# Altium integrated library PQQ10W-Q24-S5-S.IntLib: 1 symbol
Pins are listed as number, name and electrical type; pins without a type are passive.

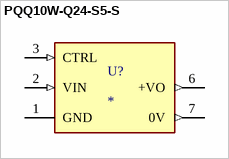
[diagram p0: symbol PQQ10W-Q24-S5-S]

## PQQ10W-Q24-S5-S
designator U?
10 W, 4:1 Input Range, Single Regulated Output, SIP8, 1500 Vdc Isolation, Dc-Dc Converter; MP: PQQ10W-Q24-S5-S; MF: CUI Inc.; SnapEDA_Link: https://www.snapeda.com/parts/PQQ10W-Q24-S5-S/CUI/view-part/?ref=snap; Availability: In Stock; Package: SIP-8 CUI Inc.; CUI_purchase_URL: https://www.cui.com/product/dc-dc-converters/isolated/pqq10w-s-series?utm_source=snapeda.com&utm_medium=referral&utm_campaign=snapedaBOM; Check_prices: https://www.snapeda.com/parts/PQQ10W-Q24-S5-S/CUI/view-part/?ref=eda; Value: *; Purchase-URL: https://pricing.snapeda.com/search/part/PQQ10W-Q24-S5-S/?ref=eda; Price: None
footprint CONV_PQQ10W-Q24-S5-S
pins: 1 GND (power), 2 VIN (in), 3 CTRL (in), 6 +VO (out), 7 0V (out)